# EAGLE library part VHDCI68 (library VHDCI-R-HS-008068-2C-68pin-female-receptacle)
Nexys 3 VHDCI 68pin 0.8mm pitch
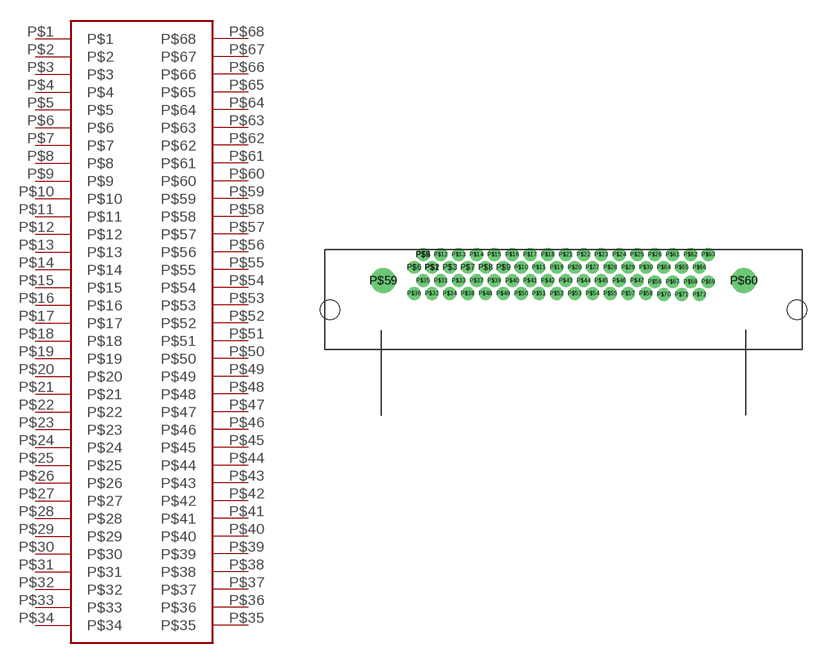
[diagram p0: symbol with the pads of VHDCI68; footprint VHDCI68]

Designator prefix -

## VHDCI68  [VHDCI68]
P$1  P$1
P$2  P$2
P$3  P$3
P$4  P$4
P$5  P$5
P$6  P$6
P$7  P$7
P$8  P$8
P$9  P$9
P$10  P$10
P$11  P$11
P$12  P$12
P$13  P$13
P$14  P$14
P$15  P$15
P$16  P$16
P$17  P$17
P$18  P$18
P$19  P$19
P$20  P$20
P$21  P$21
P$22  P$22
P$23  P$23
P$24  P$24
P$25  P$25
P$26  P$26
P$27  P$27
P$28  P$28
P$29  P$29
P$30  P$30
P$31  P$31
P$32  P$32
P$33  P$33
P$34  P$34
P$35  P$35
P$36  P$36
P$37  P$37
P$38  P$38
P$39  P$39
P$40  P$40
P$41  P$41
P$42  P$42
P$43  P$43
P$44  P$44
P$45  P$45
P$46  P$46
P$47  P$47
P$48  P$48
P$49  P$49
P$50  P$50
P$51  P$51
P$52  P$52
P$53  P$53
P$54  P$54
P$55  P$55
P$56  P$56
P$57  P$57
P$58  P$58
P$59  P$59
P$60  P$60
P$61  P$61
P$62  P$62
P$63  P$63
P$64  P$64
P$65  P$65
P$66  P$66
P$67  P$67
P$68  P$68

## Footprint VHDCI68 (pad centres in mm)
drill 0.65 pad 1: P$1 -9.6,0.8; P$2 -9.6,0.8; P$3 -8,0.8; P$4 -10.4,1.95; P$5 -10.4,1.95; P$6 -11.2,0.8; P$7 -6.4,0.8; P$8 -4.8,0.8; P$9 -3.2,0.8; P$10 -1.6,0.8; P$11 0,0.8; P$12 -8.8,1.95; P$13 -7.2,1.95; P$14 -5.6,1.95; P$15 -4,1.95; P$16 -2.4,1.95; P$17 -0.8,1.95; P$18 0.8,1.95; P$19 1.6,0.8; P$20 3.2,0.8; P$21 2.4,1.95; P$22 4,1.95; P$23 5.6,1.95; P$24 7.2,1.95; P$25 8.8,1.95; P$26 10.4,1.95; P$27 4.8,0.8; P$28 6.4,0.8; P$29 8,0.8; P$30 9.6,0.8; P$31 -8.8,-0.4; P$32 -9.6,-1.55; P$33 -7.2,-0.4; P$34 -8,-1.55; P$35 -10.4,-0.4; P$36 -11.2,-1.55; P$37 -5.6,-0.4; P$38 -6.4,-1.55; P$39 -4,-0.4; P$40 -2.4,-0.4; P$41 -0.8,-0.4; P$42 0.8,-0.4; P$43 2.4,-0.4; P$44 4,-0.4; P$45 5.6,-0.4; P$46 7.2,-0.4; P$47 8.8,-0.4; P$48 -4.8,-1.55; P$49 -3.2,-1.55; P$50 -1.6,-1.55; P$51 0,-1.55; P$52 1.6,-1.55; P$53 3.2,-1.55; P$54 4.8,-1.55; P$55 6.4,-1.55; P$56 10.4,-0.5; P$57 8,-1.55; P$58 9.6,-1.55; P$61 12,1.95; P$62 13.6,1.95; P$63 15.2,1.95; P$64 11.2,0.8; P$65 12.8,0.8; P$66 14.4,0.8; P$67 12,-0.5; P$68 13.6,-0.5; P$69 15.2,-0.5; P$70 11.2,-1.65; P$71 12.8,-1.65; P$72 14.4,-1.65
drill 1.2 pad 2.25: P$59 -13.975,-0.4; P$60 18.375,-0.4
hole 1.75 at -18.75,-3.025
hole 1.75 at 23.15,-3.025